# Altium schematic symbol library Crystal 4 pin.SchLib: 1 symbol
Pins are listed as number, name and electrical type; pins without a type are passive.

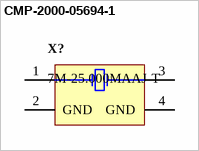
[diagram p0: symbol CMP-2000-05694-1]

## CMP-2000-05694-1
designator X?, comment 7M-25.000MAAJ-T
SMD Seam Sealing Crystal, 25 MHz, +/- 30 ppm, 18 pF, -20 to 70 degC, 4-Pin SMD, RoHS, Tape and Reel; Manufacturer: TXC; Other Names: 7M25000MAAJT / 887-1132-2; Frequency Tolerance: ±30ppm; Catalog Drawings: 7MSeriesTop7MSeriesBottom7MSeriesSide7MSeriesCircuit; Online Catalog: 7MSeries; Operating Mode: Fundamental; ESR (Equivalent Series Resistance): 60Ohm; EDA / CAD Models: DownloadfromAcceleratedDesigns; Frequency: 25MHz; Load Capacitance: 18pF; Operating Temperature: -20°C~70°C; Size / Dimension: 0.126"Lx0.098"W(3.20mmx2.50mm); Frequency Stability: ±30ppm; Datasheet URL: http://www.txccrystal.com/images/pdf/7m.pdf; Category: CrystalsandOscillators; Series: 7M; Package Description: 4-Pin Surface Mount Device, Body 3.2 x 2.5 mm; Packaging: Tape&Reel(TR); Mounting Technology: SurfaceMount; Standard Package: 3,000; Family: Crystals; Package / Case: 4-SMD,NoLead(DFN,LCC); Height: 0.031"(0.80mm); Type: MHzCrystal; Manufacturer URL: http://www.txccorp.com/; Datasheet Version: 01/2014; Mounting Type: SurfaceMount; Package Reference: 7M-4
footprint TXC-7M-4_V (SMD, 4-Leads, Body 3.2x2.5mm)
pins: 1 X1, 2 GND (power), 3 X2, 4 GND (power)